# EAGLE library part GBMICROSDSHIELD (library GB Micro SD Card Shield)
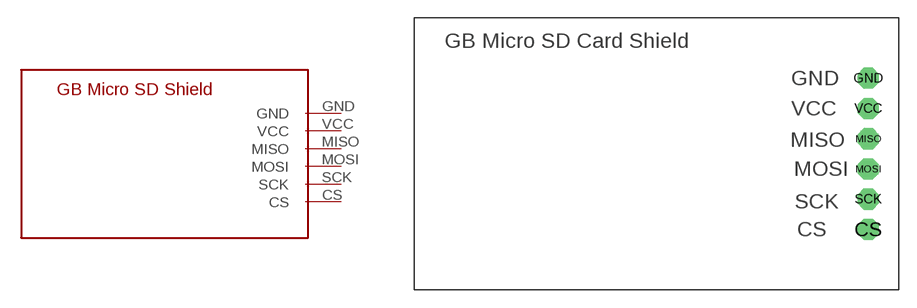
[diagram p0: symbol with the pads of GBMICROSDSHIELD; footprint GBMICROSDSHIELD]

Designator prefix -

## GBMICROSDSHIELD  [GBMICROSDSHIELD]
CS  CS
GND  GND
MISO  MISO
MOSI  MOSI
SCK  SCK
VCC  VCC

## Footprint GBMICROSDSHIELD (pad centres in mm)
drill 1 pad 1.778 octagon: CS 38.1,5.08; GND 38.1,17.78; MISO 38.1,12.7; MOSI 38.1,10.16; SCK 38.1,7.62; VCC 38.1,15.24